# EAGLE library part CBM_A1200_ROM_U6AB (library u1200)
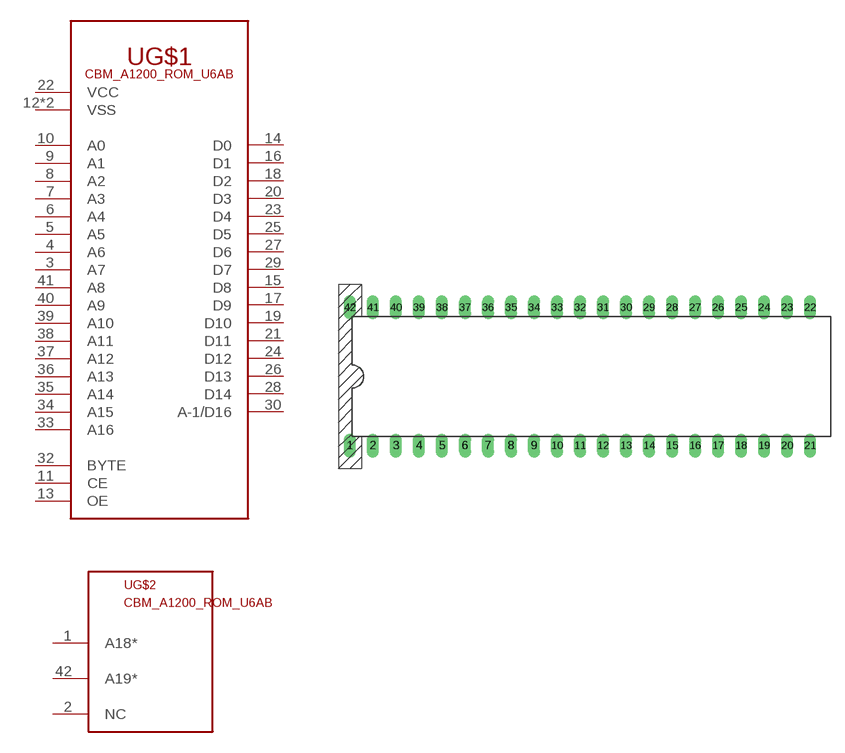
[diagram p7: symbol with the pads of CBM_A1200_ROM_DIL42; footprint CBM_A1200_ROM_DIL42]

Designator prefix -; gates G$1=CBM_A1200_ROM G$2=CBM_A1200_ROM_NC

## CBM_A1200_ROM_U6AB  [CBM_A1200_ROM_DIL42]
1  G$2:A18*
2  G$2:NC
3  G$1:A7
4  G$1:A6
5  G$1:A5
6  G$1:A4
7  G$1:A3
8  G$1:A2
9  G$1:A1
10  G$1:A0
11  G$1:CE
12  G$1:VSS
13  G$1:OE
14  G$1:D0
15  G$1:D8
16  G$1:D1
17  G$1:D9
18  G$1:D2
19  G$1:D10
20  G$1:D3
21  G$1:D11
22  G$1:VCC
23  G$1:D4
24  G$1:D12
25  G$1:D5
26  G$1:D13
27  G$1:D6
28  G$1:D14
29  G$1:D7
30  G$1:A-1/D16
31  G$1:VSS
32  G$1:BYTE
33  G$1:A16
34  G$1:A15
35  G$1:A14
36  G$1:A13
37  G$1:A12
38  G$1:A11
39  G$1:A10
40  G$1:A9
41  G$1:A8
42  G$2:A19*

## Footprint CBM_A1200_ROM_DIL42 (pad centres in mm)
Dual In Line Package
drill 0.813 long: 1 -25.4,-7.62; 2 -22.86,-7.62; 3 -20.32,-7.62; 4 -17.78,-7.62; 5 -15.24,-7.62; 6 -12.7,-7.62; 7 -10.16,-7.62; 8 -7.62,-7.62; 9 -5.08,-7.62; 10 -2.54,-7.62; 11 0,-7.62; 12 2.54,-7.62; 13 5.08,-7.62; 14 7.62,-7.62; 15 10.16,-7.62; 16 12.7,-7.62; 17 15.24,-7.62; 18 17.78,-7.62; 19 20.32,-7.62; 20 22.86,-7.62; 21 25.4,-7.62; 22 25.4,7.62; 23 22.86,7.62; 24 20.32,7.62; 25 17.78,7.62; 26 15.24,7.62; 27 12.7,7.62; 28 10.16,7.62; 29 7.62,7.62; 30 5.08,7.62; 31 2.54,7.62; 32 0,7.62; 33 -2.54,7.62; 34 -5.08,7.62; 35 -7.62,7.62; 36 -10.16,7.62; 37 -12.7,7.62; 38 -15.24,7.62; 39 -17.78,7.62; 40 -20.32,7.62; 41 -22.86,7.62; 42 -25.4,7.62